# Altium footprint library ANT_2450AT18B100E.PcbLib: 1 footprints
Each footprint in its own frame and in the unit in brackets; x right, y up, seen from the top. Pads: shape width x height; smd on the part's side, far side on the other; paste and mask are expansions set on the pad; w line width, h text height; cw(c..) or ccw(c..) is an arc to the next point about the centre after c.
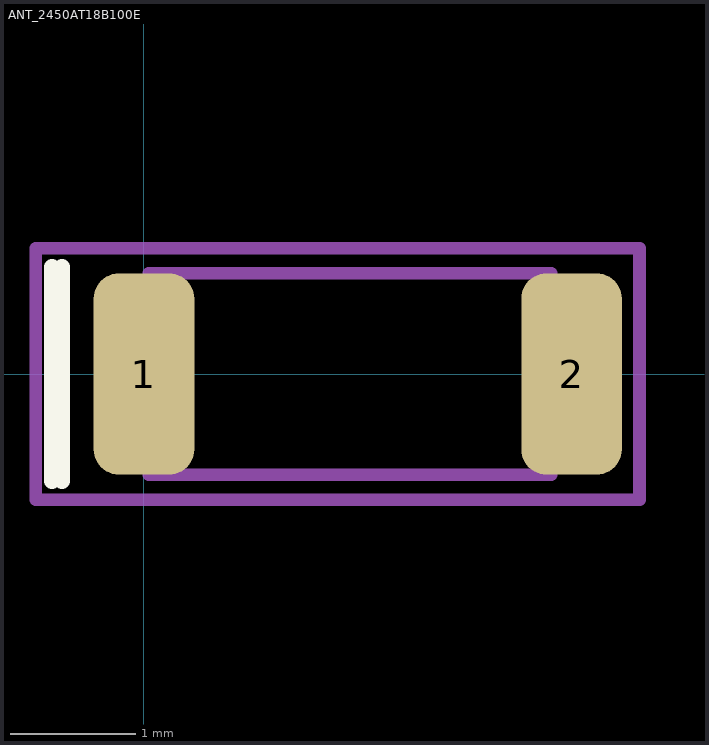
[diagram p0: the footprint, top view; thin cyan lines are the x and y axes]

## ANT_2450AT18B100E [mm] "BLE Antenna"
pads (2):
  rrect50% 0.8x1.6 smd mask+0.05: 1(0,0) 2(3.4,0)
Top Overlay:
  lines w0.127: -0.733,-0.85 -0.733,0.85 ; -0.65,-0.85 -0.65,0.85
Top Courtyard:
  lines w0.1: -0.86,-1 3.94,-1 3.94,1 -0.86,1 -0.86,-1
Top Assembly:
  lines w0.1: 0.04,-0.8 3.24,-0.8 3.24,0.8 0.84,0.8 0.04,0.8 0.04,-0.8
3D body "User Library-Antenne 3216.STEP": height 1.3, standoff 0, extent 0.04,-0.8 3.24,0.8